# Altium footprint library PcbLib1.PcbLib: 12 footprints
Each footprint in its own frame and in the unit in brackets; x right, y up, seen from the top. Pads: shape width x height; smd on the part's side, far side on the other; paste and mask are expansions set on the pad; w line width, h text height; cw(c..) or ccw(c..) is an arc to the next point about the centre after c.
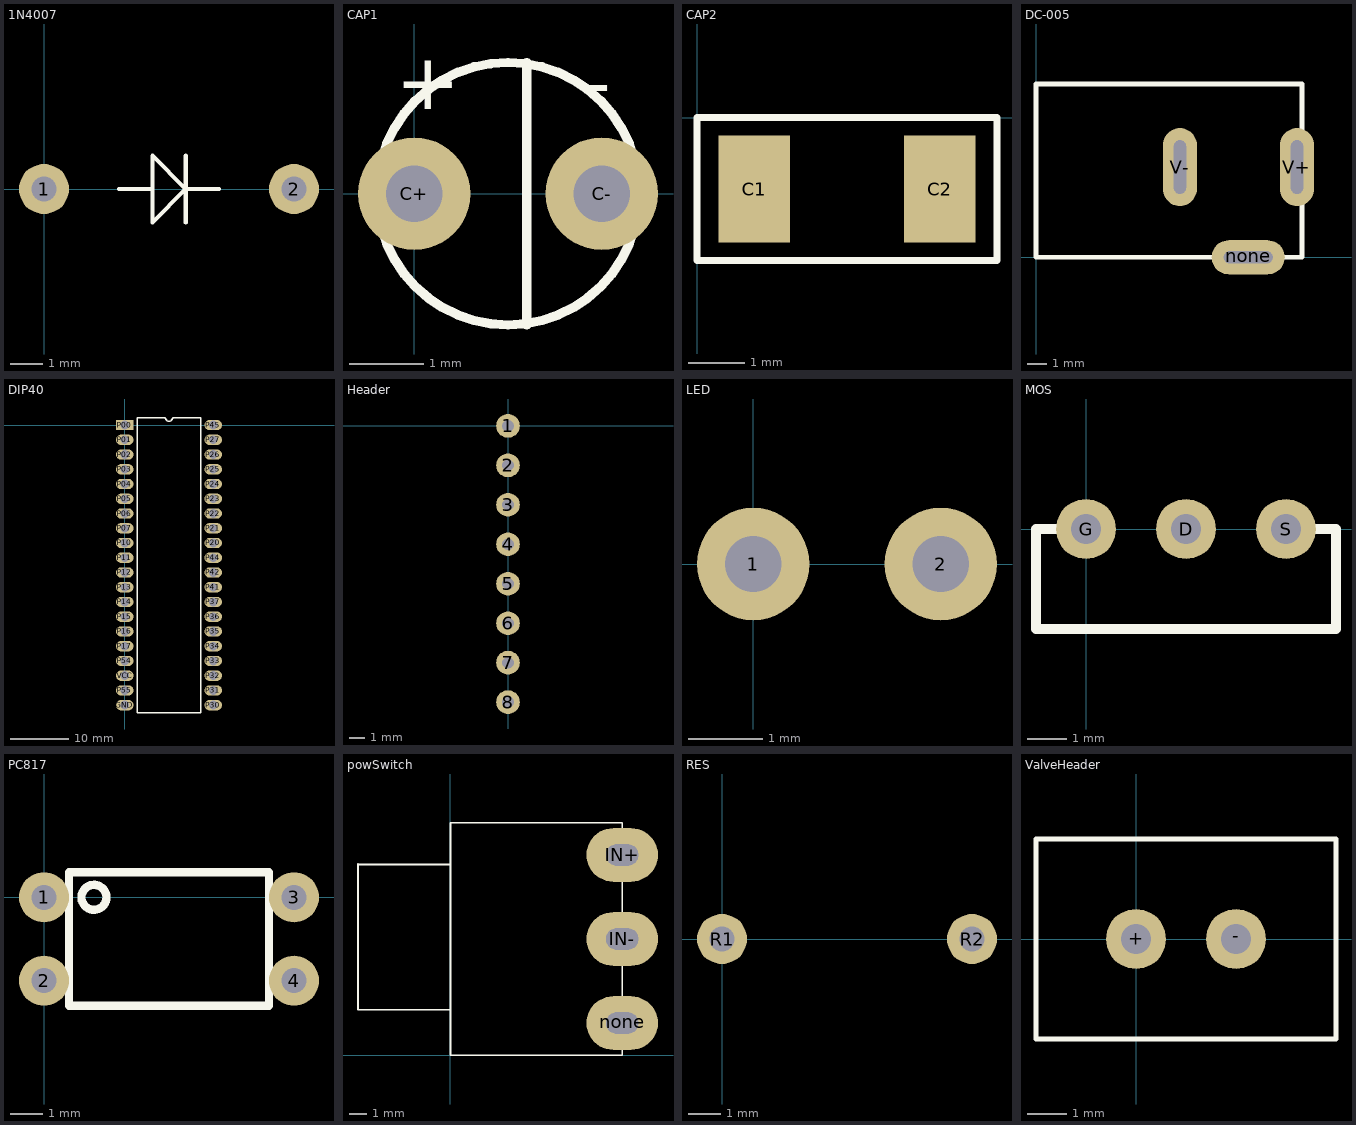
[diagram p0: the footprints below, top view; thin cyan lines are the x and y axes]

## 1N4007 [mil]
pads (2):
  round 60 hole 30: 1(0,0) 2(300,0)
Top Overlay:
  lines w5: 90,0 130,0 ; 170,-40 170,40 ; 210,0 170,0 ; 170,0 130,-40 130,40 170,0

## CAP1 [mil]
pads (2):
  round 60 hole 30: C+(0,0) C-(100,0)
Top Overlay:
  circle w5: c50,0 r70
  lines w5: 60,-70 60,70
  text "+" at -10,45 h30
  text "-" at 90,45 h30

## CAP2 [mil]
pads (2):
  rect 50x75 smd: C1(40,-50) C2(170,-50)
Top Overlay:
  lines w5: 0,-100 0,0 210,0 210,-100 0,-100

## DC-005 [mil] "电源插头"
pads (3):
  oval 150x70 hole 25 slot 100 at 0 deg: none(435,0)
  oval 70x160 hole 25 slot 110 at 90 deg: V+(535,185) V-(295,185)
Top Overlay:
  lines w10: 0,0 0,355 545,355 545,0 0,0

## DIP40 [mil]
pads (40):
  oval 120x70 hole 60: GND(0,-1900) P01(0,-100) P02(0,-200) P03(0,-300) P04(0,-400) P05(0,-500) P06(0,-600) P07(0,-700) P10(0,-800) P11(0,-900) P12(0,-1000) P13(0,-1100) P14(0,-1200) P15(0,-1300) P16(0,-1400) P17(0,-1500) P20(600,-800) P21(600,-700) P22(600,-600) P23(600,-500) P24(600,-400) P25(600,-300) P26(600,-200) P27(600,-100) P30(600,-1900) P31(600,-1800) P32(600,-1700) P33(600,-1600) P34(600,-1500) P35(600,-1400) P36(600,-1300) P37(600,-1200) P41(600,-1100) P42(600,-1000) P44(600,-900) P45(600,0) P54(0,-1600) P55(0,-1800) VCC(0,-1700)
  rect 120x70 hole 60: P00(0,0)
Top Overlay:
  lines w10: 85,-1950 515,-1950 515,50 325,50 cw(c300,50) 275,50 85,50 85,-1950

## Header [mil]
pads (8):
  round 60 hole 30: 1(0,0) 2(0,-100) 3(0,-200) 4(0,-300) 5(0,-400) 6(0,-500) 7(0,-600) 8(0,-700)

## LED [mil]
pads (2):
  round 60 hole 30: 1(0,0) 2(100,0)

## MOS [mil]
pads (3):
  round 60 hole 30: D(100,0) G(0,0) S(200,0)
Top Overlay:
  lines w10: 0,0 -50,0 -50,-100 250,-100 250,0 200,0

## PC817 [mil]
pads (4):
  round 60 hole 30: 1(0,0) 2(0,-100) 3(300,0) 4(300,-100)
Top Overlay:
  circle w10: c60,0 r15
  lines w10: 30,-130 30,30 270,30 270,-130 30,-130

## powSwitch [mm]
pads (3):
  oval 4x3 hole 1.2 slot 1.8 at 0 deg: IN+(9.601,11.2) IN-(9.601,6.5) none(9.601,1.8)
Top Overlay:
  lines w0.1: -5.169,10.668 -0.025,10.668 ; -5.169,10.69 -5.169,2.54 0,2.54 ; 0,0 9.601,0 9.601,13 0,13 0,0

## RES [mil]
pads (2):
  round 60 hole 30: R1(0,0) R2(300,0)

## ValveHeader [mil]
pads (2):
  round 60 hole 30: +(0,0) -(100,0)
Top Overlay:
  lines w5: -100,-100 -100,100 200,100 200,-100 -100,-100